# EAGLE library part UCC35705 (library NMR-relaxometry)
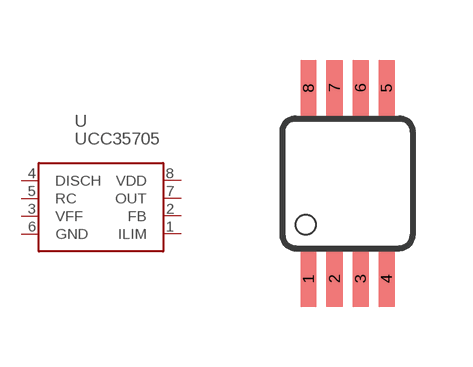
[diagram p13: symbol with the pads of MSOP-8; footprint MSOP-8]

Designator prefix -

## UCC35705  [MSOP-8]
1  ILIM  in
2  FB  in
3  VFF  pas
4  DISCH  pas
5  RC  pas
6  GND  pwr
7  OUT  out
8  VDD  pwr

## Footprint MSOP-8 (pad centres in mm)
smd 0.4 x 1.397: 1 -0.976,-2.39; 2 -0.326,-2.39; 3 0.324,-2.39; 4 0.974,-2.39; 5 0.974,2.389; 6 0.324,2.389; 7 -0.326,2.389; 8 -0.976,2.389